# EAGLE library part PINHD-1X7 (library HelaTronix - Connectors)
PIN HEADER
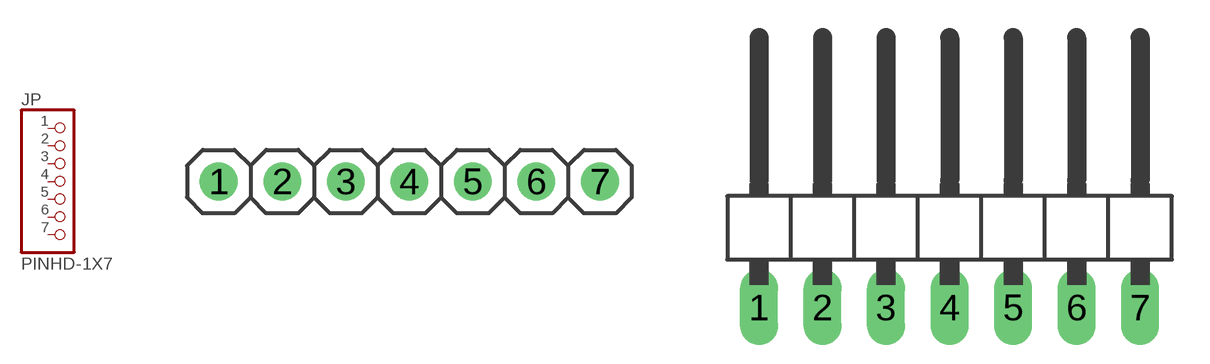
[diagram p7: symbol with the pads of 1X07; footprints 1X07, 1X07/90]

Designator prefix JP

## PINHD-1X7/180  [1X07]
1  1  pas
2  2  pas
3  3  pas
4  4  pas
5  5  pas
6  6  pas
7  7  pas

## PINHD-1X7/90  [1X07/90]
Pads as for 1X07

## PINHD-1X7/F  [1X07F]
Pads as for 1X07

## PINHD-1X7JST  [JST_XH_1X07]
Pads as for 1X07

## PINHD-1X7-XH  [B7B-XH-A]
Pads as for 1X07

## PINHD-1X7/WJ2EDGVC-5.08  [WJ2EDGVC-5.08-7P]
Pads as for 1X07

## PINHD-1X7-KF2EDGR-2.54  [KF2EDGR-2.54-7P]
Pads as for 1X07

## PINHD-1X7/WJ2EDGRC-5.08  [WJ2EDGRC-5.08-7P]
Pads as for 1X07

## Footprint 1X07 (pad centres in mm)
PIN HEADER
drill 1: 1 -7.62,0; 2 -5.08,0; 3 -2.54,0; 4 0,0; 5 2.54,0; 6 5.08,0; 7 7.62,0

## Footprint 1X07/90 (pad centres in mm)
PIN HEADER
drill 1.016 long: 1 -7.62,-3.81; 2 -5.08,-3.81; 3 -2.54,-3.81; 4 0,-3.81; 5 2.54,-3.81; 6 5.08,-3.81; 7 7.62,-3.81

## Footprint 1X07F (pad centres in mm)
Single-row, 7-pin Receptacle Header (Female) Straight, 2.54 mm (0.10 in) col pitch, 8.50 mm insulator length, 18.18 X 2.54 X 8.50 mm body Single-row (1X7), 7-pin Receptacle Header (Female) Straight package with 2.54 mm (0.10 in) col pitch, 0.68 mm lead width, 3.40 mm tail length and 8.50 mm insulator length with overall size 18.18 X 2.54 X 8.50 mm, pin pattern - clockwise from top left
drill 1.162 pad 1.762: 1 -7.62,0; 2 -5.08,0; 3 -2.54,0; 4 0,0; 5 2.54,0; 6 5.08,0; 7 7.62,0

## Footprint JST_XH_1X07 (pad centres in mm)
drill 0.8: 1 -7.62,0; 2 -5.08,0; 3 -2.54,0; 4 0,0; 5 2.54,0; 6 5.08,0; 7 7.62,0

## Footprint B7B-XH-A (pad centres in mm)
drill 1 long: 1 -7.62,0; 2 -5.08,0; 3 -2.54,0; 4 0,0; 5 2.54,0; 6 5.08,0; 7 7.62,0

## Footprint WJ2EDGVC-5.08-7P (pad centres in mm)
drill 1.6 long: 1 -15.24,0; 2 -10.16,0; 3 -5.08,0; 4 0,0; 5 5.08,0; 6 10.16,0; 7 15.24,0

## Footprint KF2EDGR-2.54-7P (pad centres in mm)
Male KF2EDGK-2.54 Female 90 KF2EDGR-2.54
drill 1 long: 1 -7.62,0; 2 -5.08,0; 3 -2.54,0; 4 0,0; 5 2.54,0; 6 5.08,0; 7 7.62,0

## Footprint WJ2EDGRC-5.08-7P (pad centres in mm)
Male - WJ2EDGK-5.08 Female 90 - WJ2EDGRC-5.08
drill 1.6 long: 1 -15.24,0; 2 -10.16,0; 3 -5.08,0; 4 0,0; 5 5.08,0; 6 10.16,0; 7 15.24,0